# EAGLE library part MAX3322E (library laforge)
Maxim MAX3322E - 15kV ESD-Protected, RS232 Transceiver for multidrop
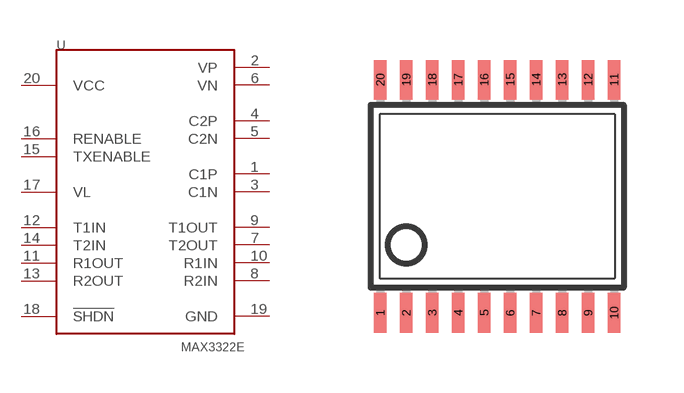
[diagram p22: symbol with the pads of TSSOP20; footprint TSSOP20]

Designator prefix -

## MAX3322E (OC_DIGIKEY: MAX3322EEUP+-ND)  [TSSOP20]
1  C1P  pas
2  VP  pas
3  C1N  pas
4  C2P  pas
5  C2N  pas
6  VN  pas
7  T2OUT  out
8  R2IN  in
9  T1OUT  out
10  R1IN  in
11  R1OUT  out
12  T1IN  in
13  R2OUT  out
14  T2IN  in
15  TXENABLE  in
16  RENABLE  in
17  VL  pwr
18  !SHDN  in
19  GND  pas
20  VCC  pwr

## Footprint TSSOP20 (pad centres in mm)
smd 0.305 x 0.991: 1 -2.925,-2.918; 2 -2.275,-2.918; 3 -1.625,-2.918; 4 -0.975,-2.918; 5 -0.325,-2.918; 6 0.325,-2.918; 7 0.975,-2.918; 8 1.625,-2.918; 9 2.275,-2.918; 10 2.925,-2.918; 11 2.925,2.918; 12 2.275,2.918; 13 1.625,2.918; 14 0.975,2.918; 15 0.325,2.918; 16 -0.325,2.918; 17 -0.975,2.918; 18 -1.625,2.918; 19 -2.275,2.918; 20 -2.925,2.918